# Altium footprint library PCB - DIODES - ONSEMI SOD-323.PcbLib: 1 footprints
Each footprint in its own frame and in the unit in brackets; x right, y up, seen from the top. Pads: shape width x height; smd on the part's side, far side on the other; paste and mask are expansions set on the pad; w line width, h text height; cw(c..) or ccw(c..) is an arc to the next point about the centre after c.
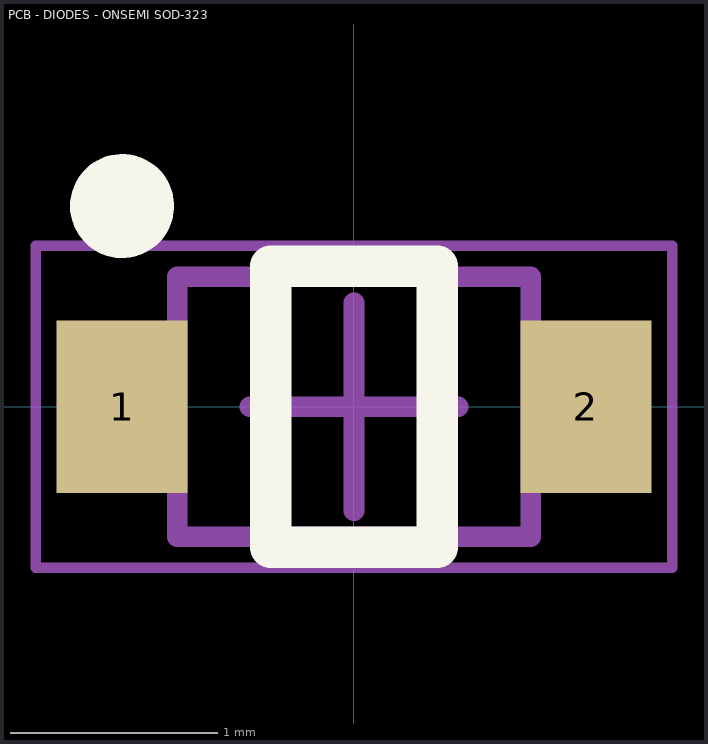
[diagram p0: the footprint, top view; thin cyan lines are the x and y axes]

## PCB - DIODES - ONSEMI SOD-323 [mm]
height 1.062
pads (2):
  rect 0.63x0.83 smd: 1(-1.115,0) 2(1.115,0)
Top Overlay:
  circle w0.25: c-1.115,0.965 r0.125
  lines w0.2: -0.4,-0.675 -0.4,0.675 0.4,0.675 0.4,-0.675 -0.4,-0.675
Mechanical 13:
  lines w0.1: -0.85,-0.625 -0.85,0.625 0.85,0.625 0.85,-0.625 -0.85,-0.625
Mechanical 15:
  lines w0.05: -1.53,-0.775 -1.53,0.775 1.53,0.775 1.53,-0.775 -1.53,-0.775
  lines w0.1: -0.5,0 0.5,0 ; 0,-0.5 0,0.5
3D body "User Library-SOD323.STEP": height 0.95, standoff -0.04, extent -1.275,-0.615 1.225,0.635